# Altium schematic symbol library SolarPanelXPlus.SCHLIB: 4 symbols
Pins are listed as number, name and electrical type; pins without a type are passive.

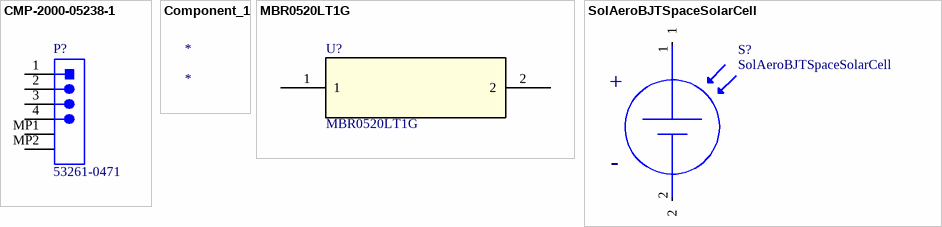
[diagram p0: symbols CMP-2000-05238-1 to SolAeroBJTSpaceSolarCell]

## CMP-2000-05238-1
designator P?, comment 53261-0471
Male Header, Pitch 1.25 mm, 1 x 4 Position, Height 3.4 mm, -40 to 85 degC, RoHS, Tape and Reel; Current Rating: 1A; Brand: Molex; Number of Positions / Contacts: 4; Pitch: 1.25mm; Voltage Rating: 125V; Mounting Angle: Right; Manufacturer URL: http://www.molex.com/; Factory Pack Quantity: 1000; Housing Material: Thermoplastic; Datasheet URL: http://www.molex.com/pdm_docs/sd/532610471_sd.pdf; Tradename: PicoBlade; Product Type: Headers; Contact Plating: Tin; Contact Material: PhosphorBronze; Package Description: 1.25mm Pitch PicoBlade(TM) Header, Surface Mount, Right Angle, Lead-Free, 4 Circuits; Mounting Style: SMD/SMT; Manufacturer: Molex; Series: 53261; Packaging: Reel; Number of Rows: 1; RoHS: Details; Number of Positions: 4; Product Category: Headers&WireHousings; Datasheet Version: Rev. G, 01/2012; Type: Shrouded; Termination Style: SMD
footprint MOLEX-53261-0471_V (SMD, 4-Leads, Body 10.15x5.2mm, Pitch 1.25mm)
pins: 1, 2, 3, 4, MP1, MP2

## Component_1
designator *

## MBR0520LT1G
designator U?
Imported; Vendor: ON Semiconductor; C: Copyright (C) 2015 Accelerated Designs. All rights reserved; Manufacturer_Part_Number: MBR0520LT1G; Copyright: Copyright (C) 2015 Accelerated Designs. All rights reserved; Value: Value; Type: Type; RefDes: RefDes
footprint SOD-123
pins: 1, 2

## SolAeroBJTSpaceSolarCell
designator S?
footprint SolAeroBJTSpaceSolarCell (Solar Cell)
pins: 1 (power) "Positive pin", 2 "Positive pin"
text: +; -